# EAGLE library part SN65220 (library slom)
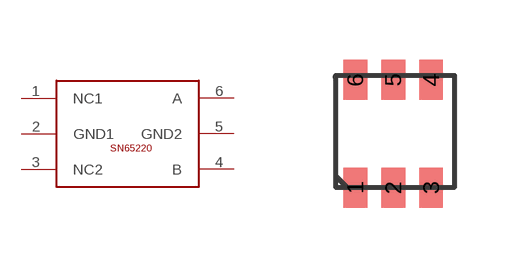
[diagram p7: symbol with the pads of SOT-23(DBV); footprint SOT-23(DBV)]

Designator prefix -

## SN65220  [SOT-23(DBV)]
1  NC1
2  GND1
3  NC2
4  B
5  GND2
6  A

## Footprint SOT-23(DBV) (pad centres in mm)
smd 0.6 x 1: 1 0,0; 2 0.95,0; 3 1.9,0; 4 1.9,2.69; 5 0.95,2.69; 6 0,2.69